# Altium footprint library 钽电容封装.PcbLib: 6 footprints
Each footprint in its own frame and in the unit in brackets; x right, y up, seen from the top. Pads: shape width x height; smd on the part's side, far side on the other; paste and mask are expansions set on the pad; w line width, h text height; cw(c..) or ccw(c..) is an arc to the next point about the centre after c.
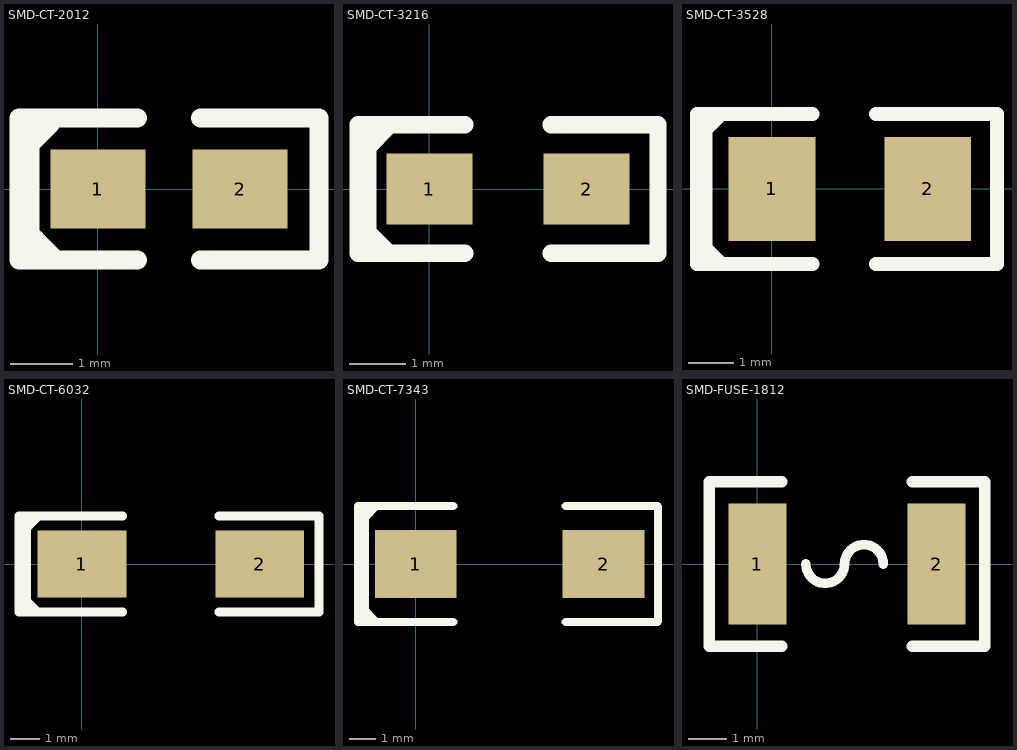
[diagram p0: the footprints below, top view; thin cyan lines are the x and y axes]

## SMD-CT-2012 [mil]
pads (2):
  rect 60x50 smd: 1(0,0) 2(90,0)
TopOverlay:
  lines w10: -42,-45 -42,45 ; -42,-31 -39,-31 -25,-45 ; -41,29 -29,41 -29,45
  lines w12: 25,-45 -50,-45 -50,45 25,45 ; 65,-45 140,-45 140,45 65,45

## SMD-CT-3216 [mil]
pads (2):
  rect 60x50 smd: 1(0,0) 2(110,0)
TopOverlay:
  lines w10: -42,-44 -42,45 ; -42,-30 -27,-45 -31,-45 ; -41,30 -29,42 -29,45
  lines w12: 25,-45 -50,-45 -50,45 25,45 ; 85,-45 160,-45 160,45 85,45

## SMD-CT-3528 [mil]
pads (2):
  rect 75x90 smd: 1(0,0) 2(135,0)
TopOverlay:
  lines w10: -65,-65 -58.62,-58.62 -58.62,-48.38 -58,-49 ; -65,-38 -65,-42 -42,-65 -37,-65 ; -65,41 -65,42 -42,65 ; -57,53.04 -57,65 -56,65 -49,65 ; -56.59,-50.41 -56.59,50.41
  lines w12: 35,-65 -65,-65 -65,65 35,65 ; 90,-65 195,-65 195,65 90,65

## SMD-CT-6032 [mil]
pads (2):
  rect 120x90 smd: 1(0,0) 2(240,0)
TopOverlay:
  lines w10: -75,-48 -58,-65 ; -75,47 -57,65 -54,65
  lines w12: -75,-65 -75,65 ; 55,-65 -85,-65 -85,65 55,65 ; 185,-65 320,-65 320,65 185,65

## SMD-CT-7343 [mil]
pads (2):
  rect 120x100 smd: 1(0,0) 2(275.59,0)
TopOverlay:
  lines w10: -75,-67 -59,-83 -59,-85 ; -75,68 -75,67 -57,85 -56,85
  lines w12: -75,-85 -75,85 ; 55,-85 -85,-85 -85,85 55,85 ; 220,-85 355,-85 355.59,-84.41 355.59,-70 355.59,70 355.59,84.41 355,85 220,85

## SMD-FUSE-1812 [mil]
pads (2):
  rect 60x125 smd: 1(0,0) 2(185,0)
TopOverlay:
  lines w10: 50,0 ccw(c70,0) 90,0 cw(c110,0) 130,0
  lines w12: 25,-85 -50,-85 -50,85 25,85 ; 160,-85 235,-85 235,85 160,85